# EAGLE library part USBASP_PIN (library my_devices)
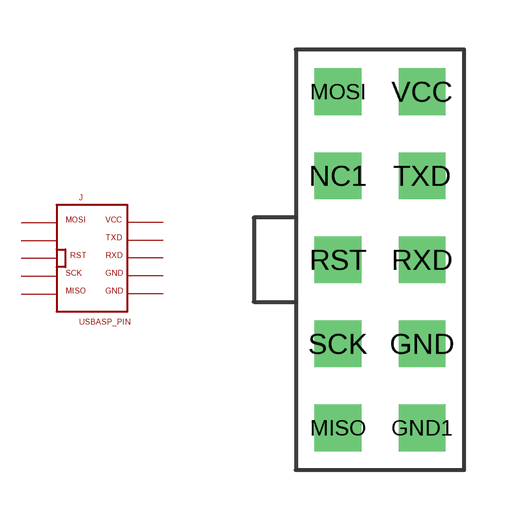
[diagram p11: symbol with the pads of USBASP_PIN; footprint USBASP_PIN]

Designator prefix J

## USBASP_PIN  [USBASP_PIN]
GND  GND  pwr
GND1  GND1  pwr
MISO  MISO
MOSI  MOSI
NC1  NC1  nc
RST  RESET
RXD  RXD
SCK  SCK
TXD  TXD
VCC  VCC  pwr

## Footprint USBASP_PIN (pad centres in mm)
drill 0.9 square: GND 1.27,-2.54; GND1 1.27,-5.08; MISO -1.27,-5.08; MOSI -1.27,5.08; NC1 -1.27,2.54; RST -1.27,0; RXD 1.27,0; SCK -1.27,-2.54; TXD 1.27,2.54; VCC 1.27,5.08